# Altium footprint library Footprints.PcbLib: 132 footprints (part 3 of 9)
Each footprint in its own frame and in the unit in brackets; x right, y up, seen from the top. Pads: shape width x height; smd on the part's side, far side on the other; paste and mask are expansions set on the pad; w line width, h text height; cw(c..) or ccw(c..) is an arc to the next point about the centre after c.
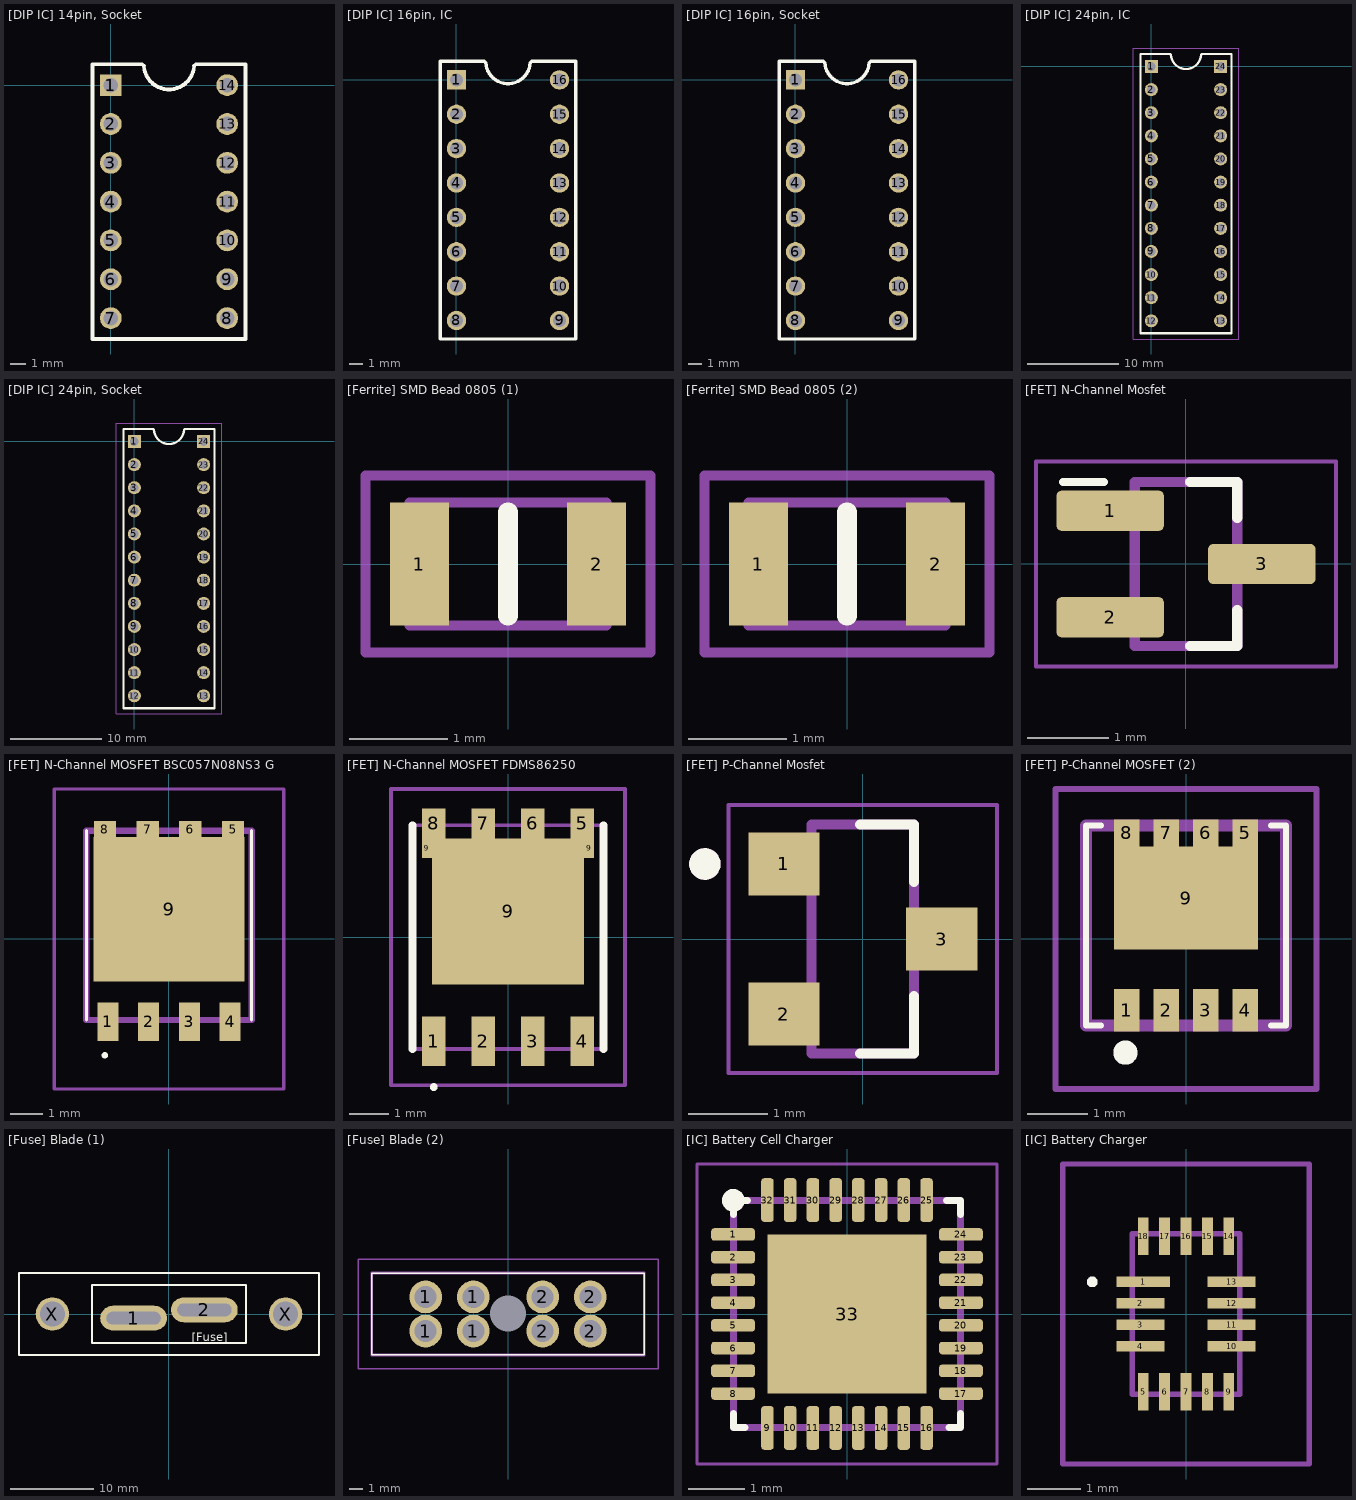
[diagram p2: the footprints below, top view; thin cyan lines are the x and y axes]

## [DIP IC] 14pin, Socket [mm] "IC Socket"
pads (14):
  rect 1.425x1.425 hole 0.95: 1(0,0)
  round 1.425 hole 0.95: 2(0,-2.54) 3(0,-5.08) 4(0,-7.62) 5(0,-10.16) 6(0,-12.7) 7(0,-15.24) 8(7.62,-15.24) 9(7.62,-12.7) 10(7.62,-10.16) 11(7.62,-7.62) 12(7.62,-5.08) 13(7.62,-2.54) 14(7.62,0)
Top Overlay:
  lines w0.254: -1.19,-16.61 8.81,-16.61 8.81,1.37 5.558,1.37 5.458,1.27 cw(c3.81,1.37) 2.162,1.27 2.062,1.37 -1.19,1.37 -1.19,-16.61
3D body "14pin DIP IC Socket.stp": height 5, standoff -3.1, extent -1.19,-16.51 8.81,1.27

## [DIP IC] 16pin, IC [mm] "Bare IC (no socket)"
pads (16):
  rect 1.425x1.425 hole 0.95: 1(0,0)
  round 1.425 hole 0.95: 2(0,-2.54) 3(0,-5.08) 4(0,-7.62) 5(0,-10.16) 6(0,-12.7) 7(0,-15.24) 8(0,-17.78) 9(7.62,-17.78) 10(7.62,-15.24) 11(7.62,-12.7) 12(7.62,-10.16) 13(7.62,-7.62) 14(7.62,-5.08) 15(7.62,-2.54) 16(7.62,0)
Top Overlay:
  lines w0.254: -1.19,-19.15 -1.19,1.37 2.062,1.37 2.162,1.27 ccw(c3.81,1.37) 5.458,1.27 5.558,1.37 8.81,1.37 8.81,-19.15 -1.19,-19.15
3D body "16pin DIP IC.step": height 3.6, standoff -3.75, extent -0.758,-18.91 8.378,1.13

## [DIP IC] 16pin, Socket [mm] "IC Socket"
pads (16):
  rect 1.425x1.425 hole 0.95: 1(0,0)
  round 1.425 hole 0.95: 2(0,-2.54) 3(0,-5.08) 4(0,-7.62) 5(0,-10.16) 6(0,-12.7) 7(0,-15.24) 8(0,-17.78) 9(7.62,-17.78) 10(7.62,-15.24) 11(7.62,-12.7) 12(7.62,-10.16) 13(7.62,-7.62) 14(7.62,-5.08) 15(7.62,-2.54) 16(7.62,0)
Top Overlay:
  lines w0.254: -1.19,-19.15 -1.19,1.37 2.062,1.37 2.162,1.27 ccw(c3.81,1.37) 5.458,1.27 5.558,1.37 8.81,1.37 8.81,-19.15 -1.19,-19.15
3D body "16pin DIP IC Socket.stp": height 5, standoff -3.1, extent -1.19,-19.05 8.81,1.27

## [DIP IC] 24pin, IC [mm]
pads (24):
  rect 1.425x1.425 hole 0.95: 1(0,0) 24(7.62,0)
  round 1.425 hole 0.95: 2(0,-2.54) 3(0,-5.08) 4(0,-7.62) 5(0,-10.16) 6(0,-12.7) 7(0,-15.24) 8(0,-17.78) 9(0,-20.32) 10(0,-22.86) 11(0,-25.4) 12(0,-27.94) 13(7.62,-27.94) 14(7.62,-25.4) 15(7.62,-22.86) 16(7.62,-20.32) 17(7.62,-17.78) 18(7.62,-15.24) 19(7.62,-12.7) 20(7.62,-10.16) 21(7.62,-7.62) 22(7.62,-5.08) 23(7.62,-2.54)
Top Overlay:
  lines w0.254: -1.19,-29.31 -1.19,1.37 2.062,1.37 2.162,1.27 ccw(c3.81,1.37) 5.458,1.27 5.558,1.37 8.81,1.37 8.81,-29.31 -1.19,-29.31
Part Border:
  lines w0.1: -2,-29.94 -2,2 9.62,2 9.62,-29.94 -2,-29.94
3D body "DIP IC [24pin, IC].step": height 3.6, standoff -3.75, extent -0.758,-29.03 8.378,1.09

## [DIP IC] 24pin, Socket [mm]
pads (24):
  rect 1.425x1.425 hole 0.95: 1(0,0) 24(7.62,0)
  round 1.425 hole 0.95: 2(0,-2.54) 3(0,-5.08) 4(0,-7.62) 5(0,-10.16) 6(0,-12.7) 7(0,-15.24) 8(0,-17.78) 9(0,-20.32) 10(0,-22.86) 11(0,-25.4) 12(0,-27.94) 13(7.62,-27.94) 14(7.62,-25.4) 15(7.62,-22.86) 16(7.62,-20.32) 17(7.62,-17.78) 18(7.62,-15.24) 19(7.62,-12.7) 20(7.62,-10.16) 21(7.62,-7.62) 22(7.62,-5.08) 23(7.62,-2.54)
Top Overlay:
  lines w0.254: -1.19,-29.31 -1.19,1.37 2.062,1.37 2.162,1.27 ccw(c3.81,1.37) 5.458,1.27 5.558,1.37 8.81,1.37 8.81,-29.31 -1.19,-29.31
Part Border:
  lines w0.1: -2,-29.94 9.62,-29.94 9.62,2 -2,2 -2,-29.94
3D body "24pin DIP IC Socket.step": height 5.02, standoff -2.47, extent -1.19,-29.591 8.81,1.651

## [Ferrite] SMD Bead 0805 (1) [mm]
pads (2):
  rect 0.6x1.25 smd: 1(-0.9,0) 2(0.9,0)
Top Overlay:
  lines w0.2: 0,-0.525 0,0.525
Physical Outline:
  lines w0.1: -1,-0.625 -1,0.625 1,0.625 1,-0.625 -1,-0.625
Part Border:
  lines w0.1: -1.45,-0.9 1.45,-0.9 1.45,0.9 -1.45,0.9 -1.45,-0.9
3D body "SMD Ferrite Bead [0805].STEP": height 1.1, standoff 0, extent -1,-0.6 1,0.6

## [Ferrite] SMD Bead 0805 (2) [mm] "742792040"
pads (2):
  rect 0.6x1.25 smd: 1(-0.9,0) 2(0.9,0)
Top Overlay:
  lines w0.2: 0,-0.525 0,0.525
Physical Outline:
  lines w0.1: -1,-0.625 1,-0.625 1,0.625 -1,0.625 -1,-0.625
Part Border:
  lines w0.1: -1.45,-0.9 -1.45,0.9 1.45,0.9 1.45,-0.9 -1.45,-0.9
3D body "742792040.stp": height 1.1, standoff 0, extent -1,-0.6 1,0.6

## [FET] N-Channel Mosfet [mm] "DMG1012UW-7"
pads (3):
  rrect25% 1.31x0.49 smd: 1(-0.925,0.65) 2(-0.925,-0.65) 3(0.925,0)
Top Overlay:
  lines w0.1: -1.5,1 -1,1
  lines w0.127: 0.05,-1 0.625,-1 0.625,-0.565 ; 0.05,1 0.625,1 0.625,0.565
Physical Outline:
  lines w0.127: -0.625,-1 -0.625,1 0.625,1 0.625,-1 -0.625,-1
Part Border:
  lines w0.05: -1.83,-1.25 -1.83,1.25 1.83,1.25 1.83,-1.25 -1.83,-1.25
3D body "step_temp.STEP": height 1.1, standoff 0, extent -1.05,-1.075 1.05,1.075

## [FET] N-Channel MOSFET BSC057N08NS3 G [mm] "BSC057N08NS3 G"
pads (9):
  rect 0.65x1.2 smd: 1(-1.905,-2.575) 2(-0.635,-2.575) 3(0.635,-2.575) 4(1.905,-2.575)
  rect 0.7x0.5 smd: 5(1.995,3.425) 6(0.665,3.425) 7(-0.665,3.425) 8(-1.995,3.425)
  rect 4.7x4.5 smd: 9(0,0.925)
Top Overlay:
  lines w0.1: -2.575,-2.525 -2.575,3.375 ; 2.575,-2.525 2.575,3.375 ; -2,-3.675 ccw(c-2,-3.625) -2,-3.575 ccw(c-2,-3.625) -2,-3.675
Physical Outline:
  lines w0.2: -2.575,-2.525 -2.575,3.375 2.575,3.375 2.575,-2.525 -2.575,-2.525
Part Border:
  lines w0.1: -3.575,-4.675 -3.575,4.675 3.575,4.675 3.575,-4.675 -3.575,-4.675
3D body "BSC057N08NS3GATMA1.stp": height 1.2, standoff 0, extent -2.575,-3.11 2.575,3.625

## [FET] N-Channel MOSFET FDMS86250 [mm] "FDMS86250"
pads (11):
  rect 0.61x1.27 smd: 1(-1.905,-2.67) 2(-0.635,-2.67) 3(0.635,-2.67) 4(1.905,-2.67)
  rect 0.61x0.77 smd: 5(1.905,2.92) 6(0.635,2.92) 7(-0.635,2.92) 8(-1.905,2.92)
  rect 0.255x0.5 smd: 9(-2.083,2.285) 9(2.083,2.285)
  rect 3.91x3.75 smd: 9(0,0.66)
Top Overlay:
  lines w0.1: -1.905,-3.9 cw(c-1.905,-3.85) -1.905,-3.8 cw(c-1.905,-3.85) -1.905,-3.9
  lines w0.2: -2.45,-2.875 -2.45,2.875 ; 2.45,-2.875 2.45,2.875
Physical Outline:
  lines w0.1: -2.45,-2.875 -2.45,2.875 2.45,2.875 2.45,-2.875 -2.45,-2.875
Part Border:
  lines w0.1: -3,-3.805 3,-3.805 3,3.805 -3,3.805 -3,-3.805
3D body "FDMS86250.stp": height 1.1, standoff 0, extent -2.5,-3.075 2.5,3.075

## [FET] P-Channel Mosfet [mm] "PMV48XP"
pads (3):
  rect 0.9x0.8 smd: 1(-1,0.95) 2(-1,-0.95) 3(1,0)
Top Overlay:
  circle w0.2: c-2,0.95 r0.1
  lines w0.127: -0.035,-1.45 0.65,-1.45 0.65,-0.72 ; -0.035,1.45 0.65,1.45 0.65,0.72
Physical Outline:
  circle w0.2: c-2,0.95 r0.1
  lines w0.127: -0.65,-1.45 0.65,-1.45 0.65,1.45 -0.65,1.45 -0.65,-1.45
Part Border:
  lines w0.05: -1.7,-1.7 1.7,-1.7 1.7,1.7 -1.7,1.7 -1.7,-1.7
3D body "SMD Mosfet (Part # PMV48XP).STEP": height 1.1, standoff 0, extent -1.15,-1.45 1.15,1.45

## [FET] P-Channel MOSFET (2) [mm]
pads (9):
  rect 0.42x0.7 smd: 1(-0.975,-1.175) 2(-0.325,-1.175) 3(0.325,-1.175) 4(0.975,-1.175)
  rect 0.42x0.45 smd: 5(0.975,1.75) 6(0.325,1.75) 7(-0.325,1.75) 8(-0.975,1.75)
  rect 2.37x1.7 smd: 9(0,0.675)
Top Overlay:
  lines w0.1: -1.4,-1.425 -1.65,-1.425 -1.65,1.875 -1.4,1.875 ; 1.4,-1.425 1.65,-1.425 1.65,1.875 1.4,1.875
  lines w0.2: -1.1,-1.875 ccw(c-1,-1.875) -0.9,-1.875 ccw(c-1,-1.875) -1.1,-1.875
Physical Outline:
  lines w0.2: -1.65,-1.425 -1.65,1.875 1.65,1.875 1.65,-1.425 -1.65,-1.425
Part Border:
  lines w0.1: -2.15,-2.475 2.15,-2.475 2.15,2.475 -2.15,2.475 -2.15,-2.475
3D body "FDMC2523P.stp": height 0.85, standoff 0, extent -1.65,-1.415 1.65,1.885

## [Fuse] Blade (1) [mm]
pads (4):
  oval 8x3 hole 1.5 slot 6.5 at 0 deg: 1(-4.25,-0.5) 2(4.25,0.5)
  round 4 hole 3: X(-14,0) X(14,0)
Top Overlay:
  lines w0.254: -18,-4.9 -18,4.9 18,4.9 18,-4.9 -18,-4.9 ; -9.25,-3.5 9.25,-3.5 9.25,3.5 -9.25,3.5 -9.25,-3.5
  text "[Fuse]" at 2.738,-3.25 h1
3D body "Blade Fuse Socket.step": height 16.5, standoff -7.5, extent -18.5,-5 18.5,5

## [Fuse] Blade (2) [mm]
pads (9):
  round 2.4 hole 1.6: 1(-6.04,-1.25) 1(-6.04,1.25) 1(-2.54,-1.25) 1(-2.54,1.25) 2(2.54,-1.25) 2(2.54,1.25) 2(6.04,-1.25) 2(6.04,1.25)
  round 1.325 hole 2.65 unplated: ""(0,0.045)
Top Overlay:
  lines w0.1: -10,-3 10,-3 10,3 -10,3 -10,-3
Physical Outline:
  lines w0.2: -10,-3 10,-3 10,3 -10,3 -10,-3
Part Border:
  lines w0.1: -11,-4 11,-4 11,4 -11,4 -11,-4
3D body "178.6165.0002.stp": height 18.03, standoff -3.57, extent -10,-3 10,3

## [IC] Battery Cell Charger [mm] "BQ25703ARSNT"
pads (33):
  rrect50% 0.77x0.22 smd: 1(-2.005,1.4) 2(-2.005,1) 3(-2.005,0.6) 4(-2.005,0.2) 5(-2.005,-0.2) 6(-2.005,-0.6) 7(-2.005,-1) 8(-2.005,-1.4) 17(2.005,-1.4) 18(2.005,-1) 19(2.005,-0.6) 20(2.005,-0.2) 21(2.005,0.2) 22(2.005,0.6) 23(2.005,1) 24(2.005,1.4)
  rrect50% 0.22x0.77 smd: 9(-1.4,-2.005) 10(-1,-2.005) 11(-0.6,-2.005) 12(-0.2,-2.005) 13(0.2,-2.005) 14(0.6,-2.005) 15(1,-2.005) 16(1.4,-2.005) 25(1.4,2.005) 26(1,2.005) 27(0.6,2.005) 28(0.2,2.005) 29(-0.2,2.005) 30(-0.6,2.005) 31(-1,2.005) 32(-1.4,2.005)
  rect 2.8x2.8 smd paste-2: 33(0,0)
Top Overlay:
  circle w0.2: c-2,2 r0.1
  lines w0.127: -2,-1.75 -2,-2 -1.8,-2 ; -2,1.75 -2,2 -1.75,2 ; 1.75,2 2,2 2,1.75 ; 1.8,-2 2,-2 2,-1.75
Top Paste:
  region: 1.125,0.135 0.135,0.135 0.135,1.125 1.125,1.125
  region: -0.135,0.135 -1.125,0.135 -1.125,1.125 -0.135,1.125
  region: -0.135,-1.125 -1.125,-1.125 -1.125,-0.135 -0.135,-0.135
  region: 1.125,-1.125 0.135,-1.125 0.135,-0.135 1.125,-0.135
Physical Outline:
  lines w0.127: -2,-2 2,-2 2,2 -2,2 -2,-2
Part Border:
  lines w0.05: -2.64,-2.64 2.64,-2.64 2.64,2.64 -2.64,2.64 -2.64,-2.64
3D body "[IC] Battery Cell Charger BQ2570.step": height 0.75, standoff -0.05, extent -2,-2 2,2

## [IC] Battery Charger [mm] "MP2672GD"
pads (18):
  rect 1x0.2 smd: 1(-0.8,0.6)
  rect 0.9x0.2 smd: 2(-0.85,0.2) 3(-0.85,-0.2) 4(-0.85,-0.6) 10(0.85,-0.6) 11(0.85,-0.2) 12(0.85,0.2) 13(0.85,0.6)
  rect 0.2x0.7 smd: 5(-0.8,-1.45) 6(-0.4,-1.45) 7(0,-1.45) 8(0.4,-1.45) 9(0.8,-1.45) 14(0.8,1.45) 15(0.4,1.45) 16(0,1.45) 17(-0.4,1.45) 18(-0.8,1.45)
Top Overlay:
  lines w0.1: -1.8,0.6 cw(c-1.75,0.6) -1.7,0.6 cw(c-1.75,0.6) -1.8,0.6
Physical Outline:
  lines w0.1: -1,-1.5 -1,1.5 1,1.5 1,-1.5 -1,-1.5
Part Border:
  lines w0.1: -2.3,-2.8 -2.3,2.8 2.3,2.8 2.3,-2.8 -2.3,-2.8
3D body "MP2672GD-0000-Z.stp": height 0.9, standoff 0, extent -1.005,-1.505 1.005,1.505